# Altium integrated library Infineon_Microcontroller.IntLib: 721 symbols (part 21 of 66)
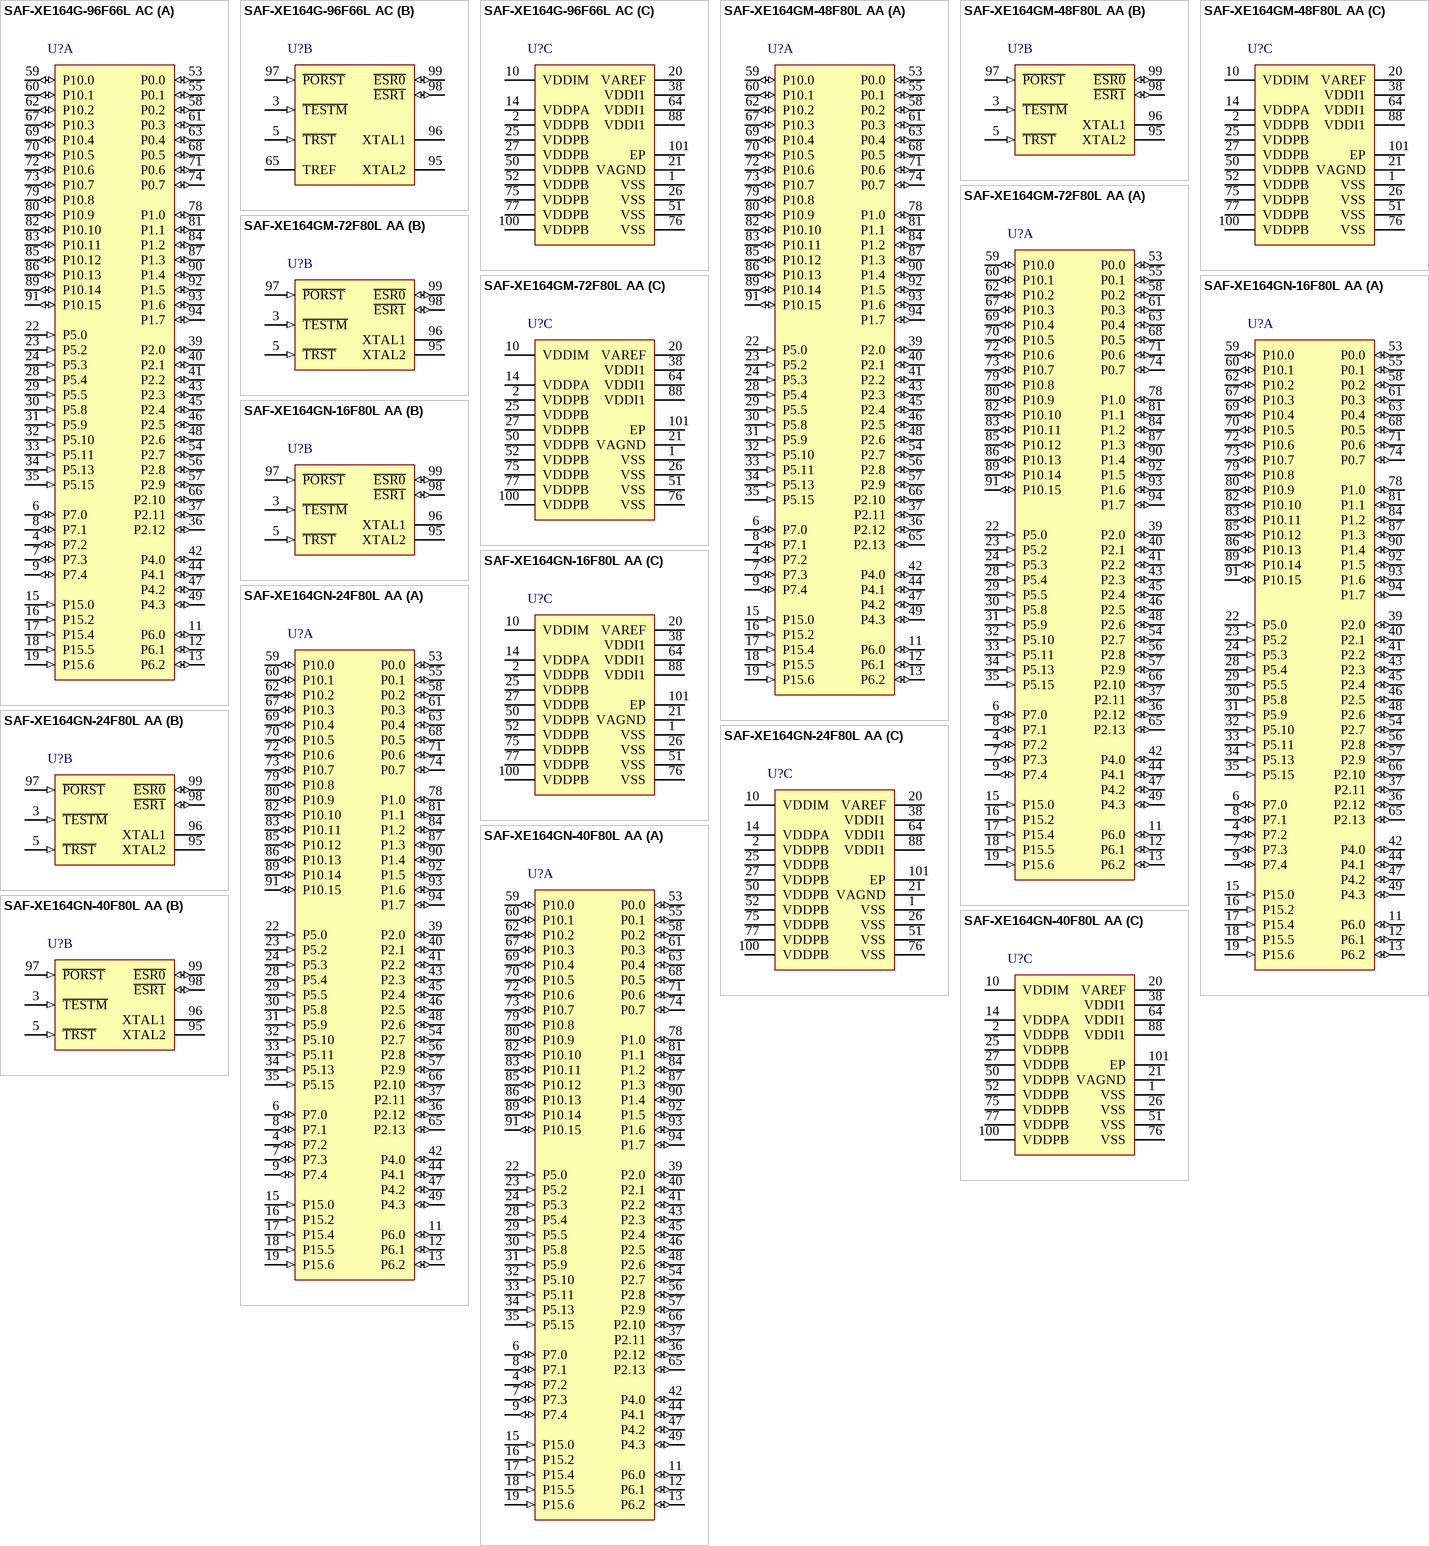
[diagram p138: symbols SAF-XE164G-96F66L AC to SAF-XE164GN-40F80L AA]

## SAF-XE164GN-24F80L AA
designator U?
80 MHz XE166 MCU with 192 KByte Program Memory, 26 KByte SRAM, -40 to 85 degC, PG-LQFP-100-8, Green; Manufacturer: Infineon; PartNumber: SAF-XE164GN-24F80L AA; A / D input lines (incl. FADC): 6+5; CAN Nodes: 2; Green: TRUE; Max Clock Frequency: 80 MHz; Packing: Reel; DatasheetVersion: Rev. 1.4; PackageVersion: Rev. 11, 02/2013; PackageReference: PG-LQFP-100-8; PackageDescription: 100-Pin Plastic (Green) Low Profile Quad Flat Package, 14 x 14 mm Body, 0.5 mm Pitch; Supplier 1: Digi-Key; Supplier Part Number 1: SAF-XE164GN-24F80L AA-ND; Halogen-free: TRUE; Program Memory: 192 KByte; SRAM (incl. Cache): 26 KByte; Mounting Technology: Surface Mount; ComponentLink1Description: Manufacturer URL; ComponentLink1URL: http://www.infineon.com/; ComponentLink2Description: Datasheet; ComponentLink2URL: http://www.infineon.com/dgdl/xe164xn_ds_v1.3_2011_07.pdf?folderId=db3a3043156fd5730115b3a665650d23&fileId=db3a30432313ff5e01235220469362ff; ComponentLink3Description: Package Specification; ComponentLink3URL: http://www.infineon.com/dgdl/xe164xn_ds_v1.4_2013_02.pdf?folderId=db3a3043156fd5730115b3a665650d23&fileId=db3a30432313ff5e01235220469362ff&sId=db3a30443f763e1b013f7661a4e70048
footprint INF-PG-LQFP-100-8-5200X5200TP_N (QFP, 100-Leads, Body 14x14mm, Pitch 0.5mm, Thermal Pad 5.2x5.2mm, IPC Medium Density)
footprint INF-PG-LQFP-100-8-5200X5200TP_L (QFP, 100-Leads, Body 14x14mm, Pitch 0.5mm, Thermal Pad 5.2x5.2mm, IPC High Density)
footprint INF-PG-LQFP-100-8-5200X5200TP_M (QFP, 100-Leads, Body 14x14mm, Pitch 0.5mm, Thermal Pad 5.2x5.2mm, IPC Low Density)
part A pins: 4 P7.2 (io), 6 P7.0 (io), 7 P7.3 (io), 8 P7.1 (io), 9 P7.4 (io), 11 P6.0 (io), 12 P6.1 (io), 13 P6.2 (io), 15 P15.0 (in), 16 P15.2 (in), 17 P15.4 (in), 18 P15.5 (in), 19 P15.6 (in), 22 P5.0 (in), 23 P5.2 (in), 24 P5.3 (in), 28 P5.4 (in), 29 P5.5 (in), 30 P5.8 (in), 31 P5.9 (in), 32 P5.10 (in), 33 P5.11 (in), 34 P5.13 (in), 35 P5.15 (in), 36 P2.12 (io), 37 P2.11 (io), 39 P2.0 (io), 40 P2.1 (io), 41 P2.2 (io), 42 P4.0 (io), 43 P2.3 (io), 44 P4.1 (io), 45 P2.4 (io), 46 P2.5 (io), 47 P4.2 (io), 48 P2.6 (io), 49 P4.3 (io), 53 P0.0 (io), 54 P2.7 (io), 55 P0.1 (io), 56 P2.8 (io), 57 P2.9 (io), 58 P0.2 (io), 59 P10.0 (io), 60 P10.1 (io), 61 P0.3 (io), 62 P10.2 (io), 63 P0.4 (io), 65 P2.13 (io), 66 P2.10 (io), 67 P10.3 (io), 68 P0.5 (io), 69 P10.4 (io), 70 P10.5 (io), 71 P0.6 (io), 72 P10.6 (io), 73 P10.7 (io), 74 P0.7 (io), 78 P1.0 (io), 79 P10.8 (io), 80 P10.9 (io), 81 P1.1 (io), 82 P10.10 (io), 83 P10.11 (io), 84 P1.2 (io), 85 P10.12 (io), 86 P10.13 (io), 87 P1.3 (io), 89 P10.14 (io), 90 P1.4 (io), 91 P10.15 (io), 92 P1.5 (io), 93 P1.6 (io), 94 P1.7 (io)
part B pins: 3 ~{TESTM} (in) "Testmode Enable", 5 ~{TRST} (in) "Test-System Reset Input", 95 XTAL2 "Crystal Oscillator Amplifier Output.", 96 XTAL1, 97 ~{PORST} (in) "Power On Reset Input.", 98 ~{ESR1} (io), 99 ~{ESR0} (io)
part C pins: 1 VSS (power) "Digital Ground.", 2 VDDPB (power) "Digital Pad Supply Voltage for Domain B.", 10 VDDIM (power) "Digital Core Supply Voltage for Domain M", 14 VDDPA (power) "Digital Pad Supply Voltage for Domain A.", 20 VAREF (power) "Reference Voltage for A/D Converters ADC0/1", 21 VAGND (power) "Reference Ground for A/D Converters ADC0/1", 25 VDDPB (power) "Digital Pad Supply Voltage for Domain B.", 26 VSS (power) "Digital Ground.", 27 VDDPB (power) "Digital Pad Supply Voltage for Domain B.", 38 VDDI1 (power) "Digital Core Supply Voltage for Domain 1", 50 VDDPB (power) "Digital Pad Supply Voltage for Domain B.", 51 VSS (power) "Digital Ground.", 52 VDDPB (power) "Digital Pad Supply Voltage for Domain B.", 64 VDDI1 (power) "Digital Core Supply Voltage for Domain 1", 75 VDDPB (power) "Digital Pad Supply Voltage for Domain B.", 76 VSS (power) "Digital Ground.", 77 VDDPB (power) "Digital Pad Supply Voltage for Domain B.", 88 VDDI1 (power) "Digital Core Supply Voltage for Domain 1", 100 VDDPB (power) "Digital Pad Supply Voltage for Domain B.", 101 EP (power)

## SAF-XE164GN-40F80L AA
designator U?
80 MHz XE166 MCU with 320 KByte Program Memory, 34 KByte SRAM, -40 to 85 degC, PG-LQFP-100-8, Green; Manufacturer: Infineon; PartNumber: SAF-XE164GN-40F80L AA; A / D input lines (incl. FADC): 6+5; CAN Nodes: 2; Green: TRUE; Max Clock Frequency: 80 MHz; Packing: Reel; DatasheetVersion: Rev. 1.4; PackageVersion: Rev. 11, 02/2013; PackageReference: PG-LQFP-100-8; PackageDescription: 100-Pin Plastic (Green) Low Profile Quad Flat Package, 14 x 14 mm Body, 0.5 mm Pitch; Supplier 1: Digi-Key; Supplier Part Number 1: SAF-XE164GN-40F80L AA-ND; Halogen-free: TRUE; Program Memory: 320 KByte; SRAM (incl. Cache): 34 KByte; Mounting Technology: Surface Mount; ComponentLink1Description: Manufacturer URL; ComponentLink1URL: http://www.infineon.com/; ComponentLink2Description: Datasheet; ComponentLink2URL: http://www.infineon.com/dgdl/xe164xn_ds_v1.3_2011_07.pdf?folderId=db3a3043156fd5730115b3a665650d23&fileId=db3a30432313ff5e01235220469362ff; ComponentLink3Description: Package Specification; ComponentLink3URL: http://www.infineon.com/dgdl/xe164xn_ds_v1.4_2013_02.pdf?folderId=db3a3043156fd5730115b3a665650d23&fileId=db3a30432313ff5e01235220469362ff&sId=db3a30443f763e1b013f7661a4e70048
footprint INF-PG-LQFP-100-8-5200X5200TP_N (QFP, 100-Leads, Body 14x14mm, Pitch 0.5mm, Thermal Pad 5.2x5.2mm, IPC Medium Density)
footprint INF-PG-LQFP-100-8-5200X5200TP_L (QFP, 100-Leads, Body 14x14mm, Pitch 0.5mm, Thermal Pad 5.2x5.2mm, IPC High Density)
footprint INF-PG-LQFP-100-8-5200X5200TP_M (QFP, 100-Leads, Body 14x14mm, Pitch 0.5mm, Thermal Pad 5.2x5.2mm, IPC Low Density)
part A pins: 4 P7.2 (io), 6 P7.0 (io), 7 P7.3 (io), 8 P7.1 (io), 9 P7.4 (io), 11 P6.0 (io), 12 P6.1 (io), 13 P6.2 (io), 15 P15.0 (in), 16 P15.2 (in), 17 P15.4 (in), 18 P15.5 (in), 19 P15.6 (in), 22 P5.0 (in), 23 P5.2 (in), 24 P5.3 (in), 28 P5.4 (in), 29 P5.5 (in), 30 P5.8 (in), 31 P5.9 (in), 32 P5.10 (in), 33 P5.11 (in), 34 P5.13 (in), 35 P5.15 (in), 36 P2.12 (io), 37 P2.11 (io), 39 P2.0 (io), 40 P2.1 (io), 41 P2.2 (io), 42 P4.0 (io), 43 P2.3 (io), 44 P4.1 (io), 45 P2.4 (io), 46 P2.5 (io), 47 P4.2 (io), 48 P2.6 (io), 49 P4.3 (io), 53 P0.0 (io), 54 P2.7 (io), 55 P0.1 (io), 56 P2.8 (io), 57 P2.9 (io), 58 P0.2 (io), 59 P10.0 (io), 60 P10.1 (io), 61 P0.3 (io), 62 P10.2 (io), 63 P0.4 (io), 65 P2.13 (io), 66 P2.10 (io), 67 P10.3 (io), 68 P0.5 (io), 69 P10.4 (io), 70 P10.5 (io), 71 P0.6 (io), 72 P10.6 (io), 73 P10.7 (io), 74 P0.7 (io), 78 P1.0 (io), 79 P10.8 (io), 80 P10.9 (io), 81 P1.1 (io), 82 P10.10 (io), 83 P10.11 (io), 84 P1.2 (io), 85 P10.12 (io), 86 P10.13 (io), 87 P1.3 (io), 89 P10.14 (io), 90 P1.4 (io), 91 P10.15 (io), 92 P1.5 (io), 93 P1.6 (io), 94 P1.7 (io)
part B pins: 3 ~{TESTM} (in) "Testmode Enable", 5 ~{TRST} (in) "Test-System Reset Input", 95 XTAL2 "Crystal Oscillator Amplifier Output.", 96 XTAL1, 97 ~{PORST} (in) "Power On Reset Input.", 98 ~{ESR1} (io), 99 ~{ESR0} (io)
part C pins: 1 VSS (power) "Digital Ground.", 2 VDDPB (power) "Digital Pad Supply Voltage for Domain B.", 10 VDDIM (power) "Digital Core Supply Voltage for Domain M", 14 VDDPA (power) "Digital Pad Supply Voltage for Domain A.", 20 VAREF (power) "Reference Voltage for A/D Converters ADC0/1", 21 VAGND (power) "Reference Ground for A/D Converters ADC0/1", 25 VDDPB (power) "Digital Pad Supply Voltage for Domain B.", 26 VSS (power) "Digital Ground.", 27 VDDPB (power) "Digital Pad Supply Voltage for Domain B.", 38 VDDI1 (power) "Digital Core Supply Voltage for Domain 1", 50 VDDPB (power) "Digital Pad Supply Voltage for Domain B.", 51 VSS (power) "Digital Ground.", 52 VDDPB (power) "Digital Pad Supply Voltage for Domain B.", 64 VDDI1 (power) "Digital Core Supply Voltage for Domain 1", 75 VDDPB (power) "Digital Pad Supply Voltage for Domain B.", 76 VSS (power) "Digital Ground.", 77 VDDPB (power) "Digital Pad Supply Voltage for Domain B.", 88 VDDI1 (power) "Digital Core Supply Voltage for Domain 1", 100 VDDPB (power) "Digital Pad Supply Voltage for Domain B.", 101 EP (power)

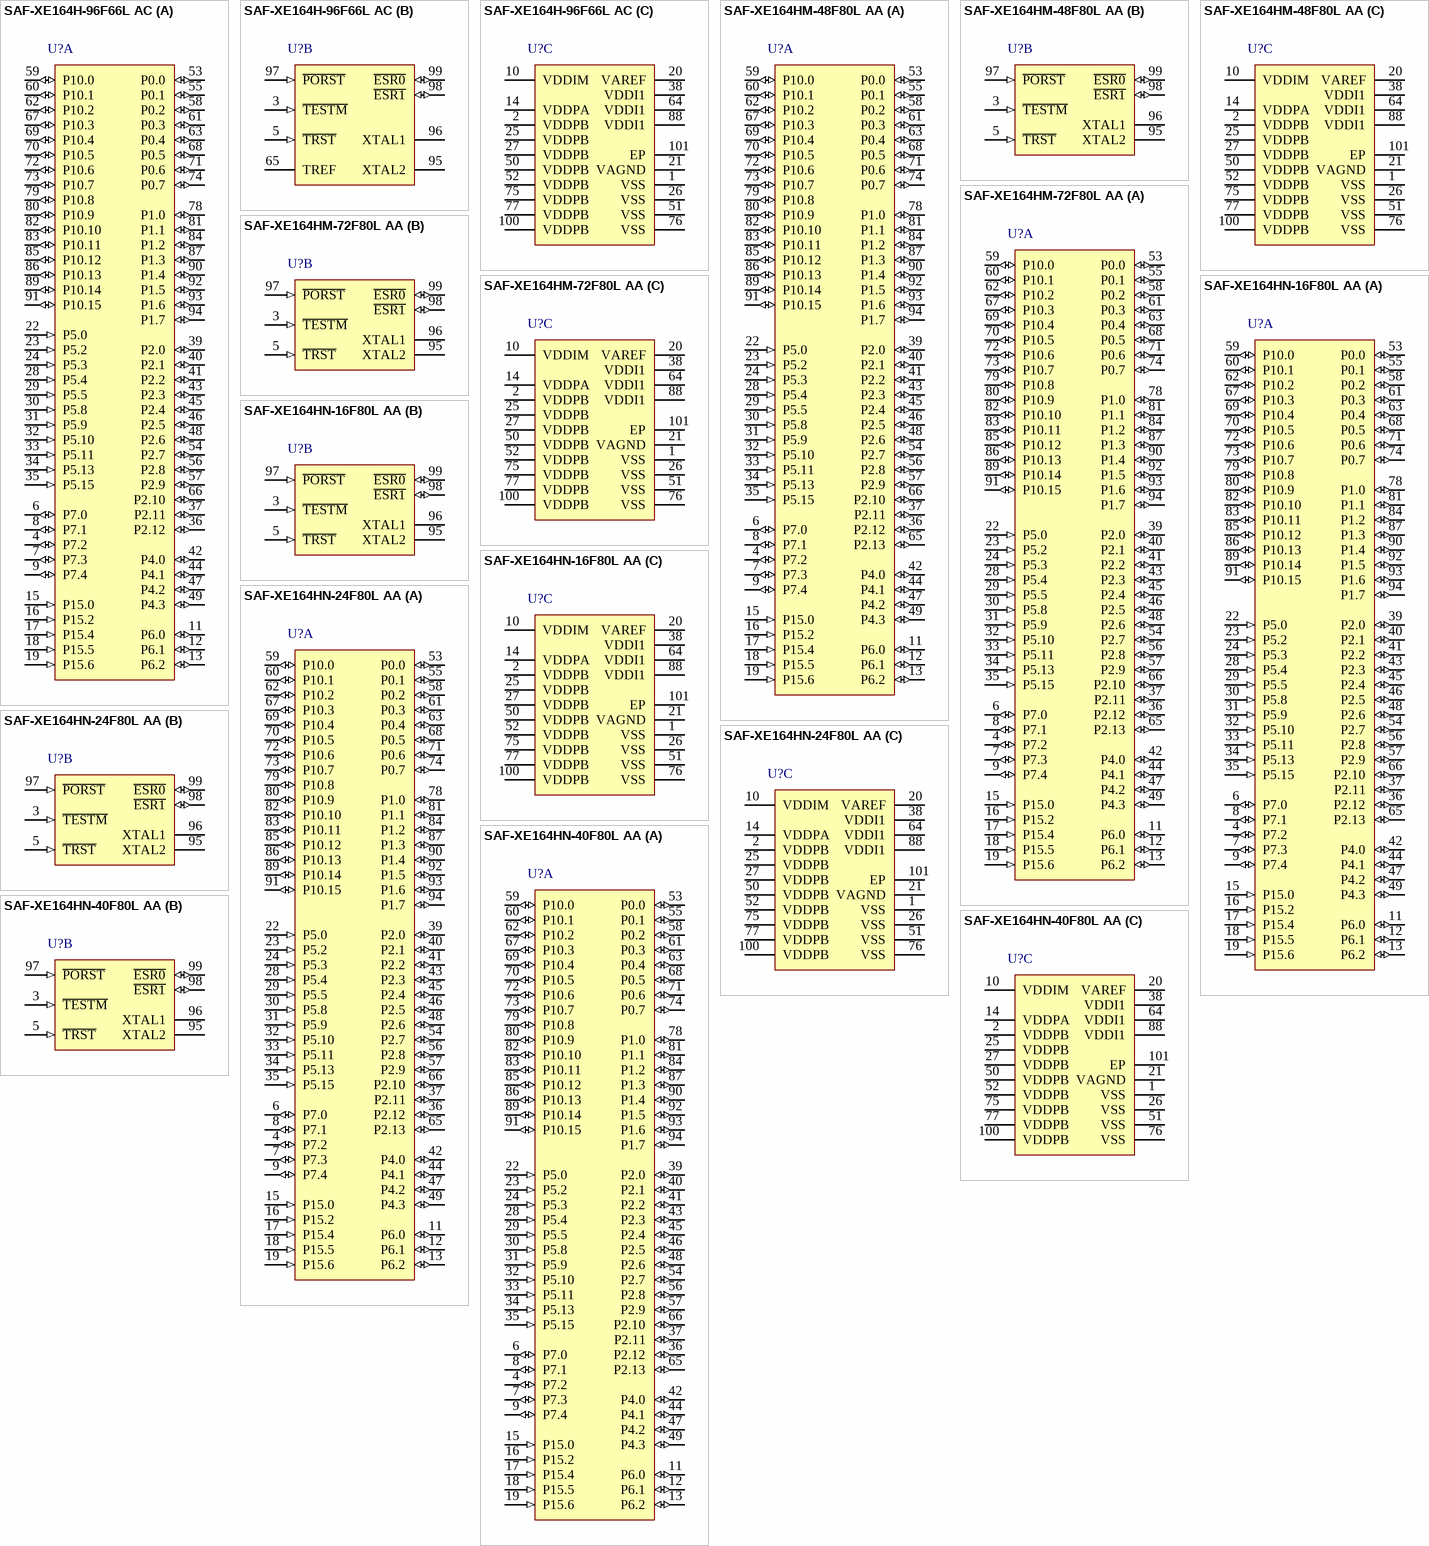
[diagram p33: symbols SAF-XE164H-96F66L AC to SAF-XE164HN-40F80L AA]

## SAF-XE164H-96F66L AC
designator U?
66 MHz XE166 MCU with 768 KByte Program Memory, 82 KByte SRAM, 3 V, 5.5 V, -40 to 85 degC, PG-LQFP-100, Reel, Green; Manufacturer: Infineon; PartNumber: SAF-XE164H-96F66L AC; A / D input lines (incl. FADC): 16; CAN Nodes: 0; Comment/Add. Features: Functional Packing; DatasheetVersion: Rev. 2.1; PackageVersion: Mar-13; PackageReference: PG-LQFP-100-3; PackageDescription: 100-Pin Plastic (Green) Low Profile Quad Flat Package, Body 14 x 14 mm, Pitch 0.5 mm; Supplier 1: Mouser; Supplier Part Number 1: 726-SAFXE164H96F66LA; Supplier 2: Digi-Key; Supplier Part Number 2: SAF-XE164H-96F66L AC-ND; Mounting Technology: Surface Mount; ComponentLink1Description: Manufacturer URL; ComponentLink1URL: http://www.infineon.com/; ComponentLink2Description: Datasheet; ComponentLink2URL: http://www.infineon.com/dgdl/xe164x_ds_v2.1_2008_08.pdf?folderId=db3a3043156fd5730115b3a665650d23&fileId=db3a3043156fd57301161007ff671b4d&sId=db3a30443d98b7f0013d9b8b27480250; ComponentLink3Description: Package Specification; ComponentLink3URL: http://www.infineon.com/dgdl/PG-LQFP-100-3%2C-4%2C-8%2C-11-Package_Overview.pdf?folderId=db3a30431a5c32f2011a90c5ac475987&fileId=db3a30431a5c32f2011a9129fcd359d1
footprint INF-PG-LQFP-100-3-6200X6200TP_N (QFP, 100-Leads, Body 14x14mm, Pitch 0.5mm, Thermal Pad 6.2x6.2mm, IPC Medium Density)
footprint INF-PG-LQFP-100-3-6200X6200TP_L (QFP, 100-Leads, Body 14x14mm, Pitch 0.5mm, Thermal Pad 6.2x6.2mm, IPC High Density)
footprint INF-PG-LQFP-100-3-6200X6200TP_M (QFP, 100-Leads, Body 14x14mm, Pitch 0.5mm, Thermal Pad 6.2x6.2mm, IPC Low Density)
part A pins: 4 P7.2 (io), 6 P7.0 (io), 7 P7.3 (io), 8 P7.1 (io), 9 P7.4 (io), 11 P6.0 (io), 12 P6.1 (io), 13 P6.2 (io), 15 P15.0 (in), 16 P15.2 (in), 17 P15.4 (in), 18 P15.5 (in), 19 P15.6 (in), 22 P5.0 (in), 23 P5.2 (in), 24 P5.3 (in), 28 P5.4 (in), 29 P5.5 (in), 30 P5.8 (in), 31 P5.9 (in), 32 P5.10 (in), 33 P5.11 (in), 34 P5.13 (in), 35 P5.15 (in), 36 P2.12 (io), 37 P2.11 (io), 39 P2.0 (io), 40 P2.1 (io), 41 P2.2 (io), 42 P4.0 (io), 43 P2.3 (io), 44 P4.1 (io), 45 P2.4 (io), 46 P2.5 (io), 47 P4.2 (io), 48 P2.6 (io), 49 P4.3 (io), 53 P0.0 (io), 54 P2.7 (io), 55 P0.1 (io), 56 P2.8 (io), 57 P2.9 (io), 58 P0.2 (io), 59 P10.0 (io), 60 P10.1 (io), 61 P0.3 (io), 62 P10.2 (io), 63 P0.4 (io), 66 P2.10 (io), 67 P10.3 (io), 68 P0.5 (io), 69 P10.4 (io), 70 P10.5 (io), 71 P0.6 (io), 72 P10.6 (io), 73 P10.7 (io), 74 P0.7 (io), 78 P1.0 (io), 79 P10.8 (io), 80 P10.9 (io), 81 P1.1 (io), 82 P10.10 (io), 83 P10.11 (io), 84 P1.2 (io), 85 P10.12 (io), 86 P10.13 (io), 87 P1.3 (io), 89 P10.14 (io), 90 P1.4 (io), 91 P10.15 (io), 92 P1.5 (io), 93 P1.6 (io), 94 P1.7 (io)
part B pins: 3 ~{TESTM} (in) "Testmode Enable", 5 ~{TRST} (in) "Test-System Reset Input", 65 TREF "Control Pin for Core Voltage Generation", 95 XTAL2 "Crystal Oscillator Amplifier Output.", 96 XTAL1 "Crystal Oscillator Amplifier Input.", 97 ~{PORST} (in) "Power On Reset Input.", 98 ~{ESR1} (io), 99 ~{ESR0} (io)
part C pins: 1 VSS (power) "Digital Ground.", 2 VDDPB (power) "Digital Pad Supply Voltage for Domain B.", 10 VDDIM (power) "Digital Core Supply Voltage for Domain M", 14 VDDPA (power) "Digital Pad Supply Voltage for Domain A.", 20 VAREF (power) "Reference Voltage for A/D Converters ADC0/1", 21 VAGND (power) "Reference Ground for A/D Converters ADC0/1", 25 VDDPB (power) "Digital Pad Supply Voltage for Domain B.", 26 VSS (power) "Digital Ground.", 27 VDDPB (power) "Digital Pad Supply Voltage for Domain B.", 38 VDDI1 (power) "Digital Core Supply Voltage for Domain 1", 50 VDDPB (power) "Digital Pad Supply Voltage for Domain B.", 51 VSS (power) "Digital Ground.", 52 VDDPB (power) "Digital Pad Supply Voltage for Domain B.", 64 VDDI1 (power) "Digital Core Supply Voltage for Domain 1", 75 VDDPB (power) "Digital Pad Supply Voltage for Domain B.", 76 VSS (power) "Digital Ground.", 77 VDDPB (power) "Digital Pad Supply Voltage for Domain B.", 88 VDDI1 (power) "Digital Core Supply Voltage for Domain 1", 100 VDDPB (power) "Digital Pad Supply Voltage for Domain B.", 101 EP (power)

## SAF-XE164HM-48F80L AA
designator U?
80 MHz XE166 MCU with 384 KByte Program Memory, 34 KByte SRAM, 3 V, 5.5 V, -40 to 85 degC, PG-LQFP-100, Reel, Green; Manufacturer: Infineon; PartNumber: SAF-XE164HM-48F80L AA; A / D input lines (incl. FADC): 16; CAN Nodes: 0; Comment/Add. Features: Functional Packing; DatasheetVersion: Rev. 2.1; PackageVersion: Mar-13; PackageReference: PG-LQFP-100-8; PackageDescription: 100-Pin Plastic (Green) Low Profile Quad Flat Package, Body 14 x 14 mm, Pitch 0.5 mm; Supplier 1: Digi-Key; Supplier Part Number 1: SAF-XE164HM-48F80L AA-ND; Mounting Technology: Surface Mount; ComponentLink1Description: Manufacturer URL; ComponentLink1URL: http://www.infineon.com/; ComponentLink2Description: Datasheet; ComponentLink2URL: http://www.infineon.com/dgdl/xe164xm_ds_v2.1_2011_07.pdf?folderId=db3a3043156fd5730115b3a665650d23&fileId=db3a304334c41e910134eb1d288804ef; ComponentLink3Description: Package Specification; ComponentLink3URL: http://www.infineon.com/dgdl/PG-LQFP-100-3%2C-4%2C-8%2C-11-Package_Overview.pdf?folderId=db3a30431a5c32f2011a90c5ac475987&fileId=db3a30431a5c32f2011a9129fcd359d1
footprint INF-PG-LQFP-100-8-6200X6200TP_N (QFP, 100-Leads, Body 14x14mm, Pitch 0.5mm, Thermal Pad 6.2x6.2mm, IPC Medium Density)
footprint INF-PG-LQFP-100-8-6200X6200TP_L (QFP, 100-Leads, Body 14x14mm, Pitch 0.5mm, Thermal Pad 6.2x6.2mm, IPC High Density)
footprint INF-PG-LQFP-100-8-6200X6200TP_M (QFP, 100-Leads, Body 14x14mm, Pitch 0.5mm, Thermal Pad 6.2x6.2mm, IPC Low Density)
part A pins: 4 P7.2 (io), 6 P7.0 (io), 7 P7.3 (io), 8 P7.1 (io), 9 P7.4 (io), 11 P6.0 (io), 12 P6.1 (io), 13 P6.2 (io), 15 P15.0 (in), 16 P15.2 (in), 17 P15.4 (in), 18 P15.5 (in), 19 P15.6 (in), 22 P5.0 (in), 23 P5.2 (in), 24 P5.3 (in), 28 P5.4 (in), 29 P5.5 (in), 30 P5.8 (in), 31 P5.9 (in), 32 P5.10 (in), 33 P5.11 (in), 34 P5.13 (in), 35 P5.15 (in), 36 P2.12 (io), 37 P2.11 (io), 39 P2.0 (io), 40 P2.1 (io), 41 P2.2 (io), 42 P4.0 (io), 43 P2.3 (io), 44 P4.1 (io), 45 P2.4 (io), 46 P2.5 (io), 47 P4.2 (io), 48 P2.6 (io), 49 P4.3 (io), 53 P0.0 (io), 54 P2.7 (io), 55 P0.1 (io), 56 P2.8 (io), 57 P2.9 (io), 58 P0.2 (io), 59 P10.0 (io), 60 P10.1 (io), 61 P0.3 (io), 62 P10.2 (io), 63 P0.4 (io), 65 P2.13 (io), 66 P2.10 (io), 67 P10.3 (io), 68 P0.5 (io), 69 P10.4 (io), 70 P10.5 (io), 71 P0.6 (io), 72 P10.6 (io), 73 P10.7 (io), 74 P0.7 (io), 78 P1.0 (io), 79 P10.8 (io), 80 P10.9 (io), 81 P1.1 (io), 82 P10.10 (io), 83 P10.11 (io), 84 P1.2 (io), 85 P10.12 (io), 86 P10.13 (io), 87 P1.3 (io), 89 P10.14 (io), 90 P1.4 (io), 91 P10.15 (io), 92 P1.5 (io), 93 P1.6 (io), 94 P1.7 (io)
part B pins: 3 ~{TESTM} (in) "Testmode Enable", 5 ~{TRST} (in) "Test-System Reset Input", 95 XTAL2 "Crystal Oscillator Amplifier Output.", 96 XTAL1, 97 ~{PORST} (in) "Power On Reset Input.", 98 ~{ESR1} (io), 99 ~{ESR0} (io)
part C pins: 1 VSS (power) "Digital Ground.", 2 VDDPB (power) "Digital Pad Supply Voltage for Domain B.", 10 VDDIM (power) "Digital Core Supply Voltage for Domain M", 14 VDDPA (power) "Digital Pad Supply Voltage for Domain A.", 20 VAREF (power) "Reference Voltage for A/D Converters ADC0/1", 21 VAGND (power) "Reference Ground for A/D Converters ADC0/1", 25 VDDPB (power) "Digital Pad Supply Voltage for Domain B.", 26 VSS (power) "Digital Ground.", 27 VDDPB (power) "Digital Pad Supply Voltage for Domain B.", 38 VDDI1 (power) "Digital Core Supply Voltage for Domain 1", 50 VDDPB (power) "Digital Pad Supply Voltage for Domain B.", 51 VSS (power) "Digital Ground.", 52 VDDPB (power) "Digital Pad Supply Voltage for Domain B.", 64 VDDI1 (power) "Digital Core Supply Voltage for Domain 1", 75 VDDPB (power) "Digital Pad Supply Voltage for Domain B.", 76 VSS (power) "Digital Ground.", 77 VDDPB (power) "Digital Pad Supply Voltage for Domain B.", 88 VDDI1 (power) "Digital Core Supply Voltage for Domain 1", 100 VDDPB (power) "Digital Pad Supply Voltage for Domain B.", 101 EP (power)

## SAF-XE164HM-72F80L AA
designator U?
80 MHz XE166 MCU with 576 KByte Program Memory, 50 KByte SRAM, 3 V, 5.5 V, -40 to 85 degC, PG-LQFP-100, Reel, Green; Manufacturer: Infineon; PartNumber: SAF-XE164HM-72F80L AA; A / D input lines (incl. FADC): 16; CAN Nodes: 0; Comment/Add. Features: Functional Packing; DatasheetVersion: Rev. 2.1; PackageVersion: Mar-13; PackageReference: PG-LQFP-100-8; PackageDescription: 100-Pin Plastic (Green) Low Profile Quad Flat Package, Body 14 x 14 mm, Pitch 0.5 mm; Supplier 1: Mouser; Supplier Part Number 1: 726-SAFXE164HM72F80L; Supplier 2: Digi-Key; Supplier Part Number 2: SAF-XE164HM-72F80L AA-ND; Mounting Technology: Surface Mount; ComponentLink1Description: Manufacturer URL; ComponentLink1URL: http://www.infineon.com/; ComponentLink2Description: Datasheet; ComponentLink2URL: http://www.infineon.com/dgdl/xe164xm_ds_v2.1_2011_07.pdf?folderId=db3a3043156fd5730115b3a665650d23&fileId=db3a304334c41e910134eb1d288804ef; ComponentLink3Description: Package Specification; ComponentLink3URL: http://www.infineon.com/dgdl/PG-LQFP-100-3%2C-4%2C-8%2C-11-Package_Overview.pdf?folderId=db3a30431a5c32f2011a90c5ac475987&fileId=db3a30431a5c32f2011a9129fcd359d1
footprint INF-PG-LQFP-100-8-6200X6200TP_N (QFP, 100-Leads, Body 14x14mm, Pitch 0.5mm, Thermal Pad 6.2x6.2mm, IPC Medium Density)
footprint INF-PG-LQFP-100-8-6200X6200TP_L (QFP, 100-Leads, Body 14x14mm, Pitch 0.5mm, Thermal Pad 6.2x6.2mm, IPC High Density)
footprint INF-PG-LQFP-100-8-6200X6200TP_M (QFP, 100-Leads, Body 14x14mm, Pitch 0.5mm, Thermal Pad 6.2x6.2mm, IPC Low Density)
part A pins: 4 P7.2 (io), 6 P7.0 (io), 7 P7.3 (io), 8 P7.1 (io), 9 P7.4 (io), 11 P6.0 (io), 12 P6.1 (io), 13 P6.2 (io), 15 P15.0 (in), 16 P15.2 (in), 17 P15.4 (in), 18 P15.5 (in), 19 P15.6 (in), 22 P5.0 (in), 23 P5.2 (in), 24 P5.3 (in), 28 P5.4 (in), 29 P5.5 (in), 30 P5.8 (in), 31 P5.9 (in), 32 P5.10 (in), 33 P5.11 (in), 34 P5.13 (in), 35 P5.15 (in), 36 P2.12 (io), 37 P2.11 (io), 39 P2.0 (io), 40 P2.1 (io), 41 P2.2 (io), 42 P4.0 (io), 43 P2.3 (io), 44 P4.1 (io), 45 P2.4 (io), 46 P2.5 (io), 47 P4.2 (io), 48 P2.6 (io), 49 P4.3 (io), 53 P0.0 (io), 54 P2.7 (io), 55 P0.1 (io), 56 P2.8 (io), 57 P2.9 (io), 58 P0.2 (io), 59 P10.0 (io), 60 P10.1 (io), 61 P0.3 (io), 62 P10.2 (io), 63 P0.4 (io), 65 P2.13 (io), 66 P2.10 (io), 67 P10.3 (io), 68 P0.5 (io), 69 P10.4 (io), 70 P10.5 (io), 71 P0.6 (io), 72 P10.6 (io), 73 P10.7 (io), 74 P0.7 (io), 78 P1.0 (io), 79 P10.8 (io), 80 P10.9 (io), 81 P1.1 (io), 82 P10.10 (io), 83 P10.11 (io), 84 P1.2 (io), 85 P10.12 (io), 86 P10.13 (io), 87 P1.3 (io), 89 P10.14 (io), 90 P1.4 (io), 91 P10.15 (io), 92 P1.5 (io), 93 P1.6 (io), 94 P1.7 (io)
part B pins: 3 ~{TESTM} (in) "Testmode Enable", 5 ~{TRST} (in) "Test-System Reset Input", 95 XTAL2 "Crystal Oscillator Amplifier Output.", 96 XTAL1, 97 ~{PORST} (in) "Power On Reset Input.", 98 ~{ESR1} (io), 99 ~{ESR0} (io)
part C pins: 1 VSS (power) "Digital Ground.", 2 VDDPB (power) "Digital Pad Supply Voltage for Domain B.", 10 VDDIM (power) "Digital Core Supply Voltage for Domain M", 14 VDDPA (power) "Digital Pad Supply Voltage for Domain A.", 20 VAREF (power) "Reference Voltage for A/D Converters ADC0/1", 21 VAGND (power) "Reference Ground for A/D Converters ADC0/1", 25 VDDPB (power) "Digital Pad Supply Voltage for Domain B.", 26 VSS (power) "Digital Ground.", 27 VDDPB (power) "Digital Pad Supply Voltage for Domain B.", 38 VDDI1 (power) "Digital Core Supply Voltage for Domain 1", 50 VDDPB (power) "Digital Pad Supply Voltage for Domain B.", 51 VSS (power) "Digital Ground.", 52 VDDPB (power) "Digital Pad Supply Voltage for Domain B.", 64 VDDI1 (power) "Digital Core Supply Voltage for Domain 1", 75 VDDPB (power) "Digital Pad Supply Voltage for Domain B.", 76 VSS (power) "Digital Ground.", 77 VDDPB (power) "Digital Pad Supply Voltage for Domain B.", 88 VDDI1 (power) "Digital Core Supply Voltage for Domain 1", 100 VDDPB (power) "Digital Pad Supply Voltage for Domain B.", 101 EP (power)

## SAF-XE164HN-16F80L AA
designator U?
80 MHz XE166 MCU with 128 KByte Program Memory, 18 KByte SRAM, 3 V, 5.5 V, -40 to 85 degC, PG-LQFP-100, Reel, Green; Manufacturer: Infineon; PartNumber: SAF-XE164HN-16F80L AA; A / D input lines (incl. FADC): 11+5; CAN Nodes: 0; Comment/Add. Features: Functional Packing; DatasheetVersion: Rev. 1.4; PackageVersion: Mar-13; PackageReference: PG-LQFP-100-8; PackageDescription: 100-Pin Plastic (Green) Low Profile Quad Flat Package, Body 14 x 14 mm, Pitch 0.5 mm; Supplier 1: Mouser; Supplier Part Number 1: 726-SAFXE164HN16F80L; Supplier 2: Digi-Key; Supplier Part Number 2: SAF-XE164HN-16F80L AA-ND; Mounting Technology: Surface Mount; ComponentLink1Description: Manufacturer URL; ComponentLink1URL: http://www.infineon.com/; ComponentLink2Description: Datasheet; ComponentLink2URL: http://www.infineon.com/dgdl/xe164xn_ds_v1.3_2011_07.pdf?folderId=db3a3043156fd5730115b3a665650d23&fileId=db3a30432313ff5e01235220469362ff; ComponentLink3Description: Package Specification; ComponentLink3URL: http://www.infineon.com/dgdl/PG-LQFP-100-3%2C-4%2C-8%2C-11-Package_Overview.pdf?folderId=db3a30431a5c32f2011a90c5ac475987&fileId=db3a30431a5c32f2011a9129fcd359d1
footprint INF-PG-LQFP-100-8-6200X6200TP_N (QFP, 100-Leads, Body 14x14mm, Pitch 0.5mm, Thermal Pad 6.2x6.2mm, IPC Medium Density)
footprint INF-PG-LQFP-100-8-6200X6200TP_L (QFP, 100-Leads, Body 14x14mm, Pitch 0.5mm, Thermal Pad 6.2x6.2mm, IPC High Density)
footprint INF-PG-LQFP-100-8-6200X6200TP_M (QFP, 100-Leads, Body 14x14mm, Pitch 0.5mm, Thermal Pad 6.2x6.2mm, IPC Low Density)
part A pins: 4 P7.2 (io), 6 P7.0 (io), 7 P7.3 (io), 8 P7.1 (io), 9 P7.4 (io), 11 P6.0 (io), 12 P6.1 (io), 13 P6.2 (io), 15 P15.0 (in), 16 P15.2 (in), 17 P15.4 (in), 18 P15.5 (in), 19 P15.6 (in), 22 P5.0 (in), 23 P5.2 (in), 24 P5.3 (in), 28 P5.4 (in), 29 P5.5 (in), 30 P5.8 (in), 31 P5.9 (in), 32 P5.10 (in), 33 P5.11 (in), 34 P5.13 (in), 35 P5.15 (in), 36 P2.12 (io), 37 P2.11 (io), 39 P2.0 (io), 40 P2.1 (io), 41 P2.2 (io), 42 P4.0 (io), 43 P2.3 (io), 44 P4.1 (io), 45 P2.4 (io), 46 P2.5 (io), 47 P4.2 (io), 48 P2.6 (io), 49 P4.3 (io), 53 P0.0 (io), 54 P2.7 (io), 55 P0.1 (io), 56 P2.8 (io), 57 P2.9 (io), 58 P0.2 (io), 59 P10.0 (io), 60 P10.1 (io), 61 P0.3 (io), 62 P10.2 (io), 63 P0.4 (io), 65 P2.13 (io), 66 P2.10 (io), 67 P10.3 (io), 68 P0.5 (io), 69 P10.4 (io), 70 P10.5 (io), 71 P0.6 (io), 72 P10.6 (io), 73 P10.7 (io), 74 P0.7 (io), 78 P1.0 (io), 79 P10.8 (io), 80 P10.9 (io), 81 P1.1 (io), 82 P10.10 (io), 83 P10.11 (io), 84 P1.2 (io), 85 P10.12 (io), 86 P10.13 (io), 87 P1.3 (io), 89 P10.14 (io), 90 P1.4 (io), 91 P10.15 (io), 92 P1.5 (io), 93 P1.6 (io), 94 P1.7 (io)
part B pins: 3 ~{TESTM} (in) "Testmode Enable", 5 ~{TRST} (in) "Test-System Reset Input", 95 XTAL2 "Crystal Oscillator Amplifier Output.", 96 XTAL1, 97 ~{PORST} (in) "Power On Reset Input.", 98 ~{ESR1} (io), 99 ~{ESR0} (io)
part C pins: 1 VSS (power) "Digital Ground.", 2 VDDPB (power) "Digital Pad Supply Voltage for Domain B.", 10 VDDIM (power) "Digital Core Supply Voltage for Domain M", 14 VDDPA (power) "Digital Pad Supply Voltage for Domain A.", 20 VAREF (power) "Reference Voltage for A/D Converters ADC0/1", 21 VAGND (power) "Reference Ground for A/D Converters ADC0/1", 25 VDDPB (power) "Digital Pad Supply Voltage for Domain B.", 26 VSS (power) "Digital Ground.", 27 VDDPB (power) "Digital Pad Supply Voltage for Domain B.", 38 VDDI1 (power) "Digital Core Supply Voltage for Domain 1", 50 VDDPB (power) "Digital Pad Supply Voltage for Domain B.", 51 VSS (power) "Digital Ground.", 52 VDDPB (power) "Digital Pad Supply Voltage for Domain B.", 64 VDDI1 (power) "Digital Core Supply Voltage for Domain 1", 75 VDDPB (power) "Digital Pad Supply Voltage for Domain B.", 76 VSS (power) "Digital Ground.", 77 VDDPB (power) "Digital Pad Supply Voltage for Domain B.", 88 VDDI1 (power) "Digital Core Supply Voltage for Domain 1", 100 VDDPB (power) "Digital Pad Supply Voltage for Domain B.", 101 EP (power)

## SAF-XE164HN-24F80L AA
designator U?
80 MHz XE166 MCU with 192 KByte Program Memory, 26 KByte SRAM, -40 to 85 degC, PG-LQFP-100-8, Green; Manufacturer: Infineon; PartNumber: SAF-XE164HN-24F80L AA; A / D input lines (incl. FADC): 11+5; CAN Nodes: 0; Green: TRUE; Max Clock Frequency: 80 MHz; Packing: Reel; DatasheetVersion: Rev. 1.4; PackageVersion: Rev. 11, 02/2013; PackageReference: PG-LQFP-100-8; PackageDescription: 100-Pin Plastic (Green) Low Profile Quad Flat Package, 14 x 14 mm Body, 0.5 mm Pitch; Supplier 1: Digi-Key; Supplier Part Number 1: SAF-XE164HN-24F80L AA-ND; Halogen-free: TRUE; Program Memory: 192 KByte; SRAM (incl. Cache): 26 KByte; Mounting Technology: Surface Mount; ComponentLink1Description: Manufacturer URL; ComponentLink1URL: http://www.infineon.com/; ComponentLink2Description: Datasheet; ComponentLink2URL: http://www.infineon.com/dgdl/xe164xn_ds_v1.3_2011_07.pdf?folderId=db3a3043156fd5730115b3a665650d23&fileId=db3a30432313ff5e01235220469362ff; ComponentLink3Description: Package Specification; ComponentLink3URL: http://www.infineon.com/dgdl/xe164xn_ds_v1.4_2013_02.pdf?folderId=db3a3043156fd5730115b3a665650d23&fileId=db3a30432313ff5e01235220469362ff&sId=db3a30443f763e1b013f7661a4e70048
footprint INF-PG-LQFP-100-8-5200X5200TP_N (QFP, 100-Leads, Body 14x14mm, Pitch 0.5mm, Thermal Pad 5.2x5.2mm, IPC Medium Density)
footprint INF-PG-LQFP-100-8-5200X5200TP_L (QFP, 100-Leads, Body 14x14mm, Pitch 0.5mm, Thermal Pad 5.2x5.2mm, IPC High Density)
footprint INF-PG-LQFP-100-8-5200X5200TP_M (QFP, 100-Leads, Body 14x14mm, Pitch 0.5mm, Thermal Pad 5.2x5.2mm, IPC Low Density)
part A pins: 4 P7.2 (io), 6 P7.0 (io), 7 P7.3 (io), 8 P7.1 (io), 9 P7.4 (io), 11 P6.0 (io), 12 P6.1 (io), 13 P6.2 (io), 15 P15.0 (in), 16 P15.2 (in), 17 P15.4 (in), 18 P15.5 (in), 19 P15.6 (in), 22 P5.0 (in), 23 P5.2 (in), 24 P5.3 (in), 28 P5.4 (in), 29 P5.5 (in), 30 P5.8 (in), 31 P5.9 (in), 32 P5.10 (in), 33 P5.11 (in), 34 P5.13 (in), 35 P5.15 (in), 36 P2.12 (io), 37 P2.11 (io), 39 P2.0 (io), 40 P2.1 (io), 41 P2.2 (io), 42 P4.0 (io), 43 P2.3 (io), 44 P4.1 (io), 45 P2.4 (io), 46 P2.5 (io), 47 P4.2 (io), 48 P2.6 (io), 49 P4.3 (io), 53 P0.0 (io), 54 P2.7 (io), 55 P0.1 (io), 56 P2.8 (io), 57 P2.9 (io), 58 P0.2 (io), 59 P10.0 (io), 60 P10.1 (io), 61 P0.3 (io), 62 P10.2 (io), 63 P0.4 (io), 65 P2.13 (io), 66 P2.10 (io), 67 P10.3 (io), 68 P0.5 (io), 69 P10.4 (io), 70 P10.5 (io), 71 P0.6 (io), 72 P10.6 (io), 73 P10.7 (io), 74 P0.7 (io), 78 P1.0 (io), 79 P10.8 (io), 80 P10.9 (io), 81 P1.1 (io), 82 P10.10 (io), 83 P10.11 (io), 84 P1.2 (io), 85 P10.12 (io), 86 P10.13 (io), 87 P1.3 (io), 89 P10.14 (io), 90 P1.4 (io), 91 P10.15 (io), 92 P1.5 (io), 93 P1.6 (io), 94 P1.7 (io)
part B pins: 3 ~{TESTM} (in) "Testmode Enable", 5 ~{TRST} (in) "Test-System Reset Input", 95 XTAL2 "Crystal Oscillator Amplifier Output.", 96 XTAL1, 97 ~{PORST} (in) "Power On Reset Input.", 98 ~{ESR1} (io), 99 ~{ESR0} (io)
part C pins: 1 VSS (power) "Digital Ground.", 2 VDDPB (power) "Digital Pad Supply Voltage for Domain B.", 10 VDDIM (power) "Digital Core Supply Voltage for Domain M", 14 VDDPA (power) "Digital Pad Supply Voltage for Domain A.", 20 VAREF (power) "Reference Voltage for A/D Converters ADC0/1", 21 VAGND (power) "Reference Ground for A/D Converters ADC0/1", 25 VDDPB (power) "Digital Pad Supply Voltage for Domain B.", 26 VSS (power) "Digital Ground.", 27 VDDPB (power) "Digital Pad Supply Voltage for Domain B.", 38 VDDI1 (power) "Digital Core Supply Voltage for Domain 1", 50 VDDPB (power) "Digital Pad Supply Voltage for Domain B.", 51 VSS (power) "Digital Ground.", 52 VDDPB (power) "Digital Pad Supply Voltage for Domain B.", 64 VDDI1 (power) "Digital Core Supply Voltage for Domain 1", 75 VDDPB (power) "Digital Pad Supply Voltage for Domain B.", 76 VSS (power) "Digital Ground.", 77 VDDPB (power) "Digital Pad Supply Voltage for Domain B.", 88 VDDI1 (power) "Digital Core Supply Voltage for Domain 1", 100 VDDPB (power) "Digital Pad Supply Voltage for Domain B.", 101 EP (power)

## SAF-XE164HN-40F80L AA
designator U?
80 MHz XE166 MCU with 320 KByte Program Memory, 34 KByte SRAM, 3 V, 5.5 V, -40 to 85 degC, PG-LQFP-100, Reel, Green; Manufacturer: Infineon; PartNumber: SAF-XE164HN-40F80L AA; A / D input lines (incl. FADC): 11+5; CAN Nodes: 0; Comment/Add. Features: Functional Packing; DatasheetVersion: Rev. 1.4; PackageVersion: Mar-13; PackageReference: PG-LQFP-100-8; PackageDescription: 100-Pin Plastic (Green) Low Profile Quad Flat Package, Body 14 x 14 mm, Pitch 0.5 mm; Supplier 1: Mouser; Supplier Part Number 1: 726-SAFXE164HN40F80L; Supplier 2: Digi-Key; Supplier Part Number 2: SAF-XE164HN-40F80L AA-ND; Mounting Technology: Surface Mount; ComponentLink1Description: Manufacturer URL; ComponentLink1URL: http://www.infineon.com/; ComponentLink2Description: Datasheet; ComponentLink2URL: http://www.infineon.com/dgdl/xe164xn_ds_v1.3_2011_07.pdf?folderId=db3a3043156fd5730115b3a665650d23&fileId=db3a30432313ff5e01235220469362ff; ComponentLink3Description: Package Specification; ComponentLink3URL: http://www.infineon.com/dgdl/PG-LQFP-100-3%2C-4%2C-8%2C-11-Package_Overview.pdf?folderId=db3a30431a5c32f2011a90c5ac475987&fileId=db3a30431a5c32f2011a9129fcd359d1
footprint INF-PG-LQFP-100-8-6200X6200TP_N (QFP, 100-Leads, Body 14x14mm, Pitch 0.5mm, Thermal Pad 6.2x6.2mm, IPC Medium Density)
footprint INF-PG-LQFP-100-8-6200X6200TP_L (QFP, 100-Leads, Body 14x14mm, Pitch 0.5mm, Thermal Pad 6.2x6.2mm, IPC High Density)
footprint INF-PG-LQFP-100-8-6200X6200TP_M (QFP, 100-Leads, Body 14x14mm, Pitch 0.5mm, Thermal Pad 6.2x6.2mm, IPC Low Density)
part A pins: 4 P7.2 (io), 6 P7.0 (io), 7 P7.3 (io), 8 P7.1 (io), 9 P7.4 (io), 11 P6.0 (io), 12 P6.1 (io), 13 P6.2 (io), 15 P15.0 (in), 16 P15.2 (in), 17 P15.4 (in), 18 P15.5 (in), 19 P15.6 (in), 22 P5.0 (in), 23 P5.2 (in), 24 P5.3 (in), 28 P5.4 (in), 29 P5.5 (in), 30 P5.8 (in), 31 P5.9 (in), 32 P5.10 (in), 33 P5.11 (in), 34 P5.13 (in), 35 P5.15 (in), 36 P2.12 (io), 37 P2.11 (io), 39 P2.0 (io), 40 P2.1 (io), 41 P2.2 (io), 42 P4.0 (io), 43 P2.3 (io), 44 P4.1 (io), 45 P2.4 (io), 46 P2.5 (io), 47 P4.2 (io), 48 P2.6 (io), 49 P4.3 (io), 53 P0.0 (io), 54 P2.7 (io), 55 P0.1 (io), 56 P2.8 (io), 57 P2.9 (io), 58 P0.2 (io), 59 P10.0 (io), 60 P10.1 (io), 61 P0.3 (io), 62 P10.2 (io), 63 P0.4 (io), 65 P2.13 (io), 66 P2.10 (io), 67 P10.3 (io), 68 P0.5 (io), 69 P10.4 (io), 70 P10.5 (io), 71 P0.6 (io), 72 P10.6 (io), 73 P10.7 (io), 74 P0.7 (io), 78 P1.0 (io), 79 P10.8 (io), 80 P10.9 (io), 81 P1.1 (io), 82 P10.10 (io), 83 P10.11 (io), 84 P1.2 (io), 85 P10.12 (io), 86 P10.13 (io), 87 P1.3 (io), 89 P10.14 (io), 90 P1.4 (io), 91 P10.15 (io), 92 P1.5 (io), 93 P1.6 (io), 94 P1.7 (io)
part B pins: 3 ~{TESTM} (in) "Testmode Enable", 5 ~{TRST} (in) "Test-System Reset Input", 95 XTAL2 "Crystal Oscillator Amplifier Output.", 96 XTAL1, 97 ~{PORST} (in) "Power On Reset Input.", 98 ~{ESR1} (io), 99 ~{ESR0} (io)
part C pins: 1 VSS (power) "Digital Ground.", 2 VDDPB (power) "Digital Pad Supply Voltage for Domain B.", 10 VDDIM (power) "Digital Core Supply Voltage for Domain M", 14 VDDPA (power) "Digital Pad Supply Voltage for Domain A.", 20 VAREF (power) "Reference Voltage for A/D Converters ADC0/1", 21 VAGND (power) "Reference Ground for A/D Converters ADC0/1", 25 VDDPB (power) "Digital Pad Supply Voltage for Domain B.", 26 VSS (power) "Digital Ground.", 27 VDDPB (power) "Digital Pad Supply Voltage for Domain B.", 38 VDDI1 (power) "Digital Core Supply Voltage for Domain 1", 50 VDDPB (power) "Digital Pad Supply Voltage for Domain B.", 51 VSS (power) "Digital Ground.", 52 VDDPB (power) "Digital Pad Supply Voltage for Domain B.", 64 VDDI1 (power) "Digital Core Supply Voltage for Domain 1", 75 VDDPB (power) "Digital Pad Supply Voltage for Domain B.", 76 VSS (power) "Digital Ground.", 77 VDDPB (power) "Digital Pad Supply Voltage for Domain B.", 88 VDDI1 (power) "Digital Core Supply Voltage for Domain 1", 100 VDDPB (power) "Digital Pad Supply Voltage for Domain B.", 101 EP (power)

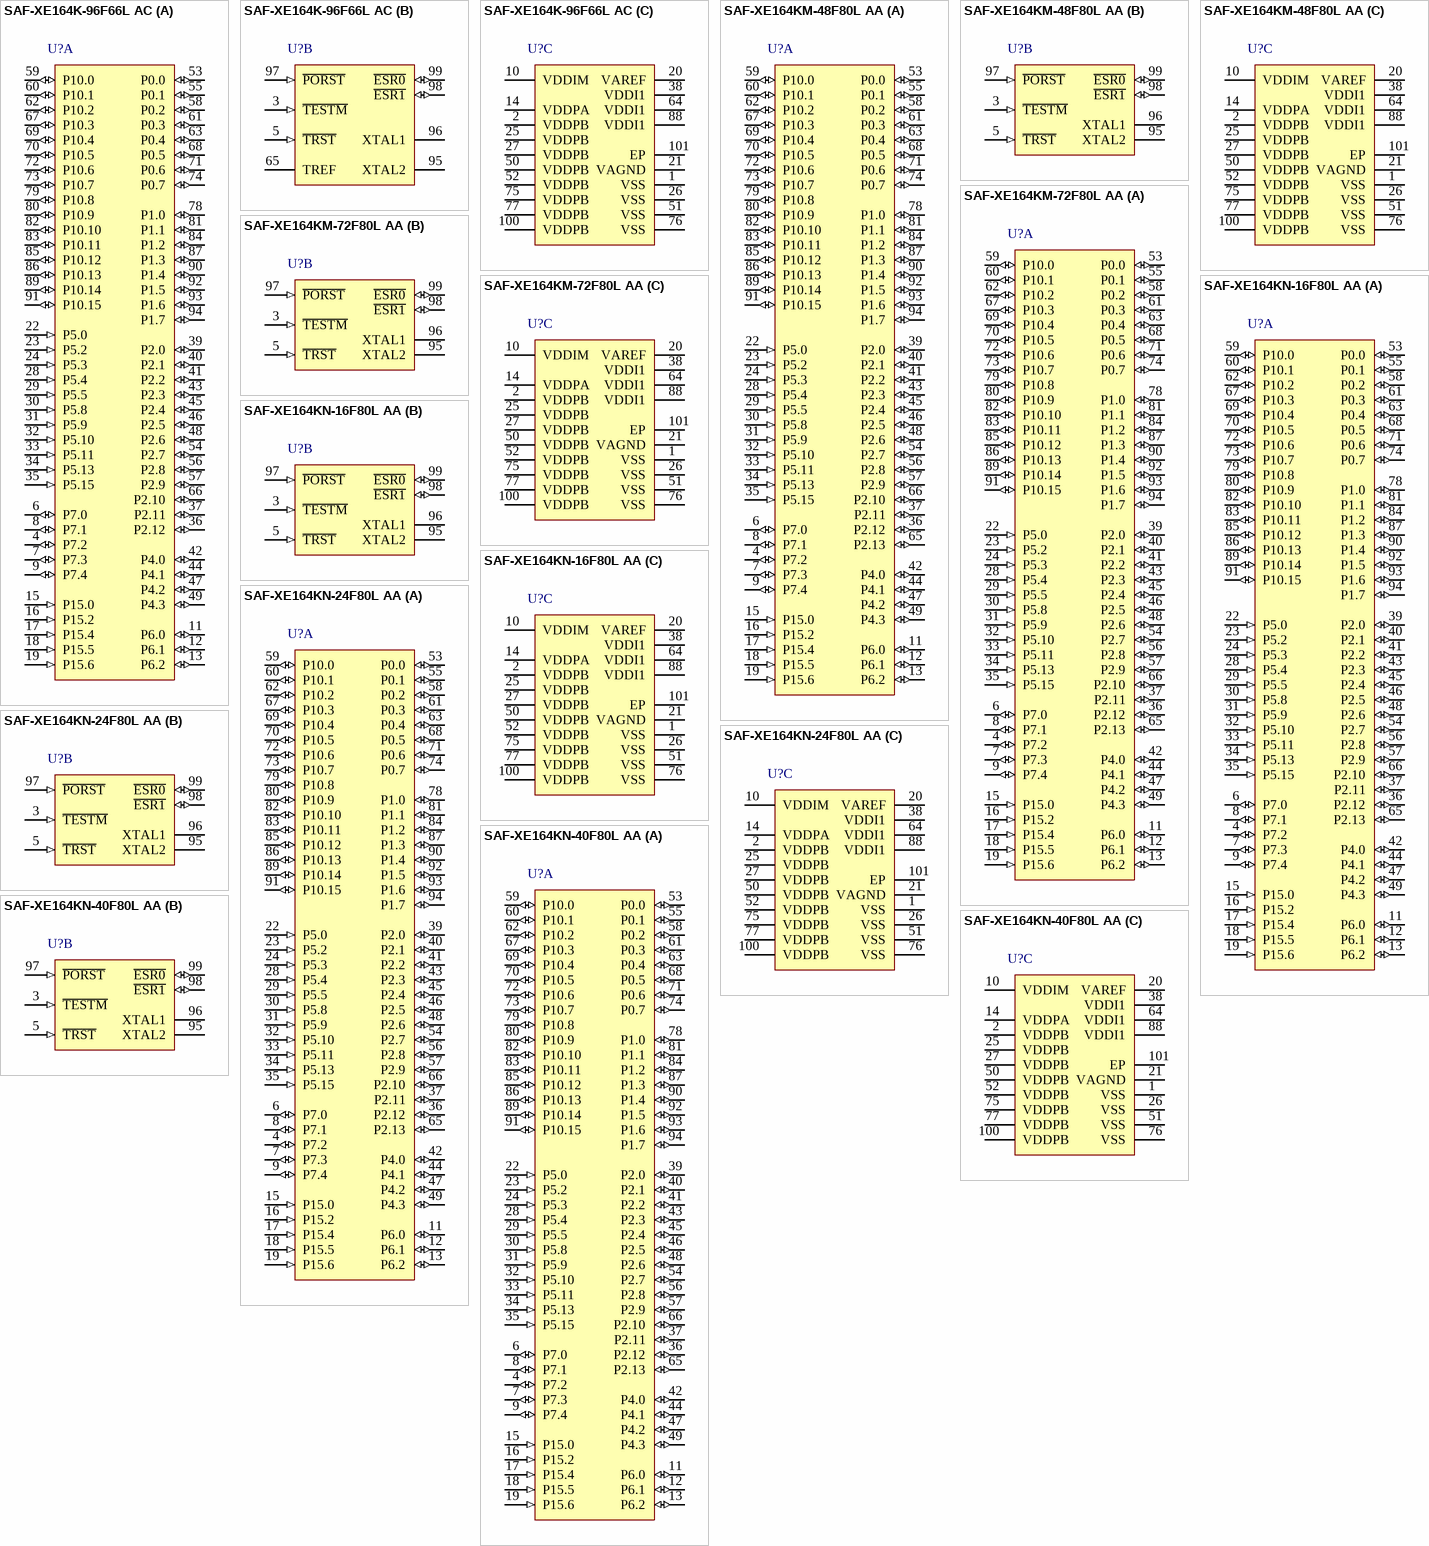
[diagram p34: symbols SAF-XE164K-96F66L AC to SAF-XE164KN-40F80L AA]

## SAF-XE164K-96F66L AC
designator U?
66 MHz XE166 MCU with 768 KByte Program Memory, 82 KByte SRAM, 3 V, 5.5 V, -40 to 85 degC, PG-LQFP-100, Reel, Green; Manufacturer: Infineon; PartNumber: SAF-XE164K-96F66L AC; A / D input lines (incl. FADC): 11; CAN Nodes: 0; Comment/Add. Features: Functional Packing; DatasheetVersion: Rev. 2.1; PackageVersion: Mar-13; PackageReference: PG-LQFP-100-3; PackageDescription: 100-Pin Plastic (Green) Low Profile Quad Flat Package, Body 14 x 14 mm, Pitch 0.5 mm; Supplier 1: Mouser; Supplier Part Number 1: 726-SAFXE164K96F66LA; Supplier 2: Digi-Key; Supplier Part Number 2: SAF-XE164K-96F66L AC-ND; Mounting Technology: Surface Mount; ComponentLink1Description: Manufacturer URL; ComponentLink1URL: http://www.infineon.com/; ComponentLink2Description: Datasheet; ComponentLink2URL: http://www.infineon.com/dgdl/xe164x_ds_v2.1_2008_08.pdf?folderId=db3a3043156fd5730115b3a665650d23&fileId=db3a3043156fd57301161007ff671b4d&sId=db3a30443d98b7f0013d9b8b27480250; ComponentLink3Description: Package Specification; ComponentLink3URL: http://www.infineon.com/dgdl/PG-LQFP-100-3%2C-4%2C-8%2C-11-Package_Overview.pdf?folderId=db3a30431a5c32f2011a90c5ac475987&fileId=db3a30431a5c32f2011a9129fcd359d1
footprint INF-PG-LQFP-100-3-6200X6200TP_N (QFP, 100-Leads, Body 14x14mm, Pitch 0.5mm, Thermal Pad 6.2x6.2mm, IPC Medium Density)
footprint INF-PG-LQFP-100-3-6200X6200TP_L (QFP, 100-Leads, Body 14x14mm, Pitch 0.5mm, Thermal Pad 6.2x6.2mm, IPC High Density)
footprint INF-PG-LQFP-100-3-6200X6200TP_M (QFP, 100-Leads, Body 14x14mm, Pitch 0.5mm, Thermal Pad 6.2x6.2mm, IPC Low Density)
part A pins: 4 P7.2 (io), 6 P7.0 (io), 7 P7.3 (io), 8 P7.1 (io), 9 P7.4 (io), 11 P6.0 (io), 12 P6.1 (io), 13 P6.2 (io), 15 P15.0 (in), 16 P15.2 (in), 17 P15.4 (in), 18 P15.5 (in), 19 P15.6 (in), 22 P5.0 (in), 23 P5.2 (in), 24 P5.3 (in), 28 P5.4 (in), 29 P5.5 (in), 30 P5.8 (in), 31 P5.9 (in), 32 P5.10 (in), 33 P5.11 (in), 34 P5.13 (in), 35 P5.15 (in), 36 P2.12 (io), 37 P2.11 (io), 39 P2.0 (io), 40 P2.1 (io), 41 P2.2 (io), 42 P4.0 (io), 43 P2.3 (io), 44 P4.1 (io), 45 P2.4 (io), 46 P2.5 (io), 47 P4.2 (io), 48 P2.6 (io), 49 P4.3 (io), 53 P0.0 (io), 54 P2.7 (io), 55 P0.1 (io), 56 P2.8 (io), 57 P2.9 (io), 58 P0.2 (io), 59 P10.0 (io), 60 P10.1 (io), 61 P0.3 (io), 62 P10.2 (io), 63 P0.4 (io), 66 P2.10 (io), 67 P10.3 (io), 68 P0.5 (io), 69 P10.4 (io), 70 P10.5 (io), 71 P0.6 (io), 72 P10.6 (io), 73 P10.7 (io), 74 P0.7 (io), 78 P1.0 (io), 79 P10.8 (io), 80 P10.9 (io), 81 P1.1 (io), 82 P10.10 (io), 83 P10.11 (io), 84 P1.2 (io), 85 P10.12 (io), 86 P10.13 (io), 87 P1.3 (io), 89 P10.14 (io), 90 P1.4 (io), 91 P10.15 (io), 92 P1.5 (io), 93 P1.6 (io), 94 P1.7 (io)
part B pins: 3 ~{TESTM} (in) "Testmode Enable", 5 ~{TRST} (in) "Test-System Reset Input", 65 TREF "Control Pin for Core Voltage Generation", 95 XTAL2 "Crystal Oscillator Amplifier Output.", 96 XTAL1 "Crystal Oscillator Amplifier Input.", 97 ~{PORST} (in) "Power On Reset Input.", 98 ~{ESR1} (io), 99 ~{ESR0} (io)
part C pins: 1 VSS (power) "Digital Ground.", 2 VDDPB (power) "Digital Pad Supply Voltage for Domain B.", 10 VDDIM (power) "Digital Core Supply Voltage for Domain M", 14 VDDPA (power) "Digital Pad Supply Voltage for Domain A.", 20 VAREF (power) "Reference Voltage for A/D Converters ADC0/1", 21 VAGND (power) "Reference Ground for A/D Converters ADC0/1", 25 VDDPB (power) "Digital Pad Supply Voltage for Domain B.", 26 VSS (power) "Digital Ground.", 27 VDDPB (power) "Digital Pad Supply Voltage for Domain B.", 38 VDDI1 (power) "Digital Core Supply Voltage for Domain 1", 50 VDDPB (power) "Digital Pad Supply Voltage for Domain B.", 51 VSS (power) "Digital Ground.", 52 VDDPB (power) "Digital Pad Supply Voltage for Domain B.", 64 VDDI1 (power) "Digital Core Supply Voltage for Domain 1", 75 VDDPB (power) "Digital Pad Supply Voltage for Domain B.", 76 VSS (power) "Digital Ground.", 77 VDDPB (power) "Digital Pad Supply Voltage for Domain B.", 88 VDDI1 (power) "Digital Core Supply Voltage for Domain 1", 100 VDDPB (power) "Digital Pad Supply Voltage for Domain B.", 101 EP (power)

## SAF-XE164KM-48F80L AA
designator U?
80 MHz XE166 MCU with 384 KByte Program Memory, 34 KByte SRAM, 3 V, 5.5 V, -40 to 85 degC, PG-LQFP-100, Reel, Green; Manufacturer: Infineon; PartNumber: SAF-XE164KM-48F80L AA; A / D input lines (incl. FADC): 11; CAN Nodes: 0; Comment/Add. Features: Functional Packing; DatasheetVersion: Rev. 2.1; PackageVersion: Mar-13; PackageReference: PG-LQFP-100-8; PackageDescription: 100-Pin Plastic (Green) Low Profile Quad Flat Package, Body 14 x 14 mm, Pitch 0.5 mm; Supplier 1: Mouser; Supplier Part Number 1: 726-SAFXE164KM48F80L; Supplier 2: Digi-Key; Supplier Part Number 2: SAF-XE164KM-48F80L AA-ND; Mounting Technology: Surface Mount; ComponentLink1Description: Manufacturer URL; ComponentLink1URL: http://www.infineon.com/; ComponentLink2Description: Datasheet; ComponentLink2URL: http://www.infineon.com/dgdl/xe164xm_ds_v2.1_2011_07.pdf?folderId=db3a3043156fd5730115b3a665650d23&fileId=db3a304334c41e910134eb1d288804ef; ComponentLink3Description: Package Specification; ComponentLink3URL: http://www.infineon.com/dgdl/PG-LQFP-100-3%2C-4%2C-8%2C-11-Package_Overview.pdf?folderId=db3a30431a5c32f2011a90c5ac475987&fileId=db3a30431a5c32f2011a9129fcd359d1
footprint INF-PG-LQFP-100-8-6200X6200TP_N (QFP, 100-Leads, Body 14x14mm, Pitch 0.5mm, Thermal Pad 6.2x6.2mm, IPC Medium Density)
footprint INF-PG-LQFP-100-8-6200X6200TP_L (QFP, 100-Leads, Body 14x14mm, Pitch 0.5mm, Thermal Pad 6.2x6.2mm, IPC High Density)
footprint INF-PG-LQFP-100-8-6200X6200TP_M (QFP, 100-Leads, Body 14x14mm, Pitch 0.5mm, Thermal Pad 6.2x6.2mm, IPC Low Density)
part A pins: 4 P7.2 (io), 6 P7.0 (io), 7 P7.3 (io), 8 P7.1 (io), 9 P7.4 (io), 11 P6.0 (io), 12 P6.1 (io), 13 P6.2 (io), 15 P15.0 (in), 16 P15.2 (in), 17 P15.4 (in), 18 P15.5 (in), 19 P15.6 (in), 22 P5.0 (in), 23 P5.2 (in), 24 P5.3 (in), 28 P5.4 (in), 29 P5.5 (in), 30 P5.8 (in), 31 P5.9 (in), 32 P5.10 (in), 33 P5.11 (in), 34 P5.13 (in), 35 P5.15 (in), 36 P2.12 (io), 37 P2.11 (io), 39 P2.0 (io), 40 P2.1 (io), 41 P2.2 (io), 42 P4.0 (io), 43 P2.3 (io), 44 P4.1 (io), 45 P2.4 (io), 46 P2.5 (io), 47 P4.2 (io), 48 P2.6 (io), 49 P4.3 (io), 53 P0.0 (io), 54 P2.7 (io), 55 P0.1 (io), 56 P2.8 (io), 57 P2.9 (io), 58 P0.2 (io), 59 P10.0 (io), 60 P10.1 (io), 61 P0.3 (io), 62 P10.2 (io), 63 P0.4 (io), 65 P2.13 (io), 66 P2.10 (io), 67 P10.3 (io), 68 P0.5 (io), 69 P10.4 (io), 70 P10.5 (io), 71 P0.6 (io), 72 P10.6 (io), 73 P10.7 (io), 74 P0.7 (io), 78 P1.0 (io), 79 P10.8 (io), 80 P10.9 (io), 81 P1.1 (io), 82 P10.10 (io), 83 P10.11 (io), 84 P1.2 (io), 85 P10.12 (io), 86 P10.13 (io), 87 P1.3 (io), 89 P10.14 (io), 90 P1.4 (io), 91 P10.15 (io), 92 P1.5 (io), 93 P1.6 (io), 94 P1.7 (io)
part B pins: 3 ~{TESTM} (in) "Testmode Enable", 5 ~{TRST} (in) "Test-System Reset Input", 95 XTAL2 "Crystal Oscillator Amplifier Output.", 96 XTAL1, 97 ~{PORST} (in) "Power On Reset Input.", 98 ~{ESR1} (io), 99 ~{ESR0} (io)
part C pins: 1 VSS (power) "Digital Ground.", 2 VDDPB (power) "Digital Pad Supply Voltage for Domain B.", 10 VDDIM (power) "Digital Core Supply Voltage for Domain M", 14 VDDPA (power) "Digital Pad Supply Voltage for Domain A.", 20 VAREF (power) "Reference Voltage for A/D Converters ADC0/1", 21 VAGND (power) "Reference Ground for A/D Converters ADC0/1", 25 VDDPB (power) "Digital Pad Supply Voltage for Domain B.", 26 VSS (power) "Digital Ground.", 27 VDDPB (power) "Digital Pad Supply Voltage for Domain B.", 38 VDDI1 (power) "Digital Core Supply Voltage for Domain 1", 50 VDDPB (power) "Digital Pad Supply Voltage for Domain B.", 51 VSS (power) "Digital Ground.", 52 VDDPB (power) "Digital Pad Supply Voltage for Domain B.", 64 VDDI1 (power) "Digital Core Supply Voltage for Domain 1", 75 VDDPB (power) "Digital Pad Supply Voltage for Domain B.", 76 VSS (power) "Digital Ground.", 77 VDDPB (power) "Digital Pad Supply Voltage for Domain B.", 88 VDDI1 (power) "Digital Core Supply Voltage for Domain 1", 100 VDDPB (power) "Digital Pad Supply Voltage for Domain B.", 101 EP (power)

## SAF-XE164KM-72F80L AA
designator U?
80 MHz XE166 MCU with 576 KByte Program Memory, 50 KByte SRAM, 3 V, 5.5 V, -40 to 85 degC, PG-LQFP-100, Reel, Green; Manufacturer: Infineon; PartNumber: SAF-XE164KM-72F80L AA; A / D input lines (incl. FADC): 11; CAN Nodes: 0; Comment/Add. Features: Functional Packing; DatasheetVersion: Rev. 2.1; PackageVersion: Mar-13; PackageReference: PG-LQFP-100-8; PackageDescription: 100-Pin Plastic (Green) Low Profile Quad Flat Package, Body 14 x 14 mm, Pitch 0.5 mm; Supplier 1: Mouser; Supplier Part Number 1: 726-SAFXE164KM72F80L; Supplier 2: Digi-Key; Supplier Part Number 2: SAF-XE164KM-72F80L AA-ND; Mounting Technology: Surface Mount; ComponentLink1Description: Manufacturer URL; ComponentLink1URL: http://www.infineon.com/; ComponentLink2Description: Datasheet; ComponentLink2URL: http://www.infineon.com/dgdl/xe164xm_ds_v2.1_2011_07.pdf?folderId=db3a3043156fd5730115b3a665650d23&fileId=db3a304334c41e910134eb1d288804ef; ComponentLink3Description: Package Specification; ComponentLink3URL: http://www.infineon.com/dgdl/PG-LQFP-100-3%2C-4%2C-8%2C-11-Package_Overview.pdf?folderId=db3a30431a5c32f2011a90c5ac475987&fileId=db3a30431a5c32f2011a9129fcd359d1
footprint INF-PG-LQFP-100-8-6200X6200TP_N (QFP, 100-Leads, Body 14x14mm, Pitch 0.5mm, Thermal Pad 6.2x6.2mm, IPC Medium Density)
footprint INF-PG-LQFP-100-8-6200X6200TP_L (QFP, 100-Leads, Body 14x14mm, Pitch 0.5mm, Thermal Pad 6.2x6.2mm, IPC High Density)
footprint INF-PG-LQFP-100-8-6200X6200TP_M (QFP, 100-Leads, Body 14x14mm, Pitch 0.5mm, Thermal Pad 6.2x6.2mm, IPC Low Density)
part A pins: 4 P7.2 (io), 6 P7.0 (io), 7 P7.3 (io), 8 P7.1 (io), 9 P7.4 (io), 11 P6.0 (io), 12 P6.1 (io), 13 P6.2 (io), 15 P15.0 (in), 16 P15.2 (in), 17 P15.4 (in), 18 P15.5 (in), 19 P15.6 (in), 22 P5.0 (in), 23 P5.2 (in), 24 P5.3 (in), 28 P5.4 (in), 29 P5.5 (in), 30 P5.8 (in), 31 P5.9 (in), 32 P5.10 (in), 33 P5.11 (in), 34 P5.13 (in), 35 P5.15 (in), 36 P2.12 (io), 37 P2.11 (io), 39 P2.0 (io), 40 P2.1 (io), 41 P2.2 (io), 42 P4.0 (io), 43 P2.3 (io), 44 P4.1 (io), 45 P2.4 (io), 46 P2.5 (io), 47 P4.2 (io), 48 P2.6 (io), 49 P4.3 (io), 53 P0.0 (io), 54 P2.7 (io), 55 P0.1 (io), 56 P2.8 (io), 57 P2.9 (io), 58 P0.2 (io), 59 P10.0 (io), 60 P10.1 (io), 61 P0.3 (io), 62 P10.2 (io), 63 P0.4 (io), 65 P2.13 (io), 66 P2.10 (io), 67 P10.3 (io), 68 P0.5 (io), 69 P10.4 (io), 70 P10.5 (io), 71 P0.6 (io), 72 P10.6 (io), 73 P10.7 (io), 74 P0.7 (io), 78 P1.0 (io), 79 P10.8 (io), 80 P10.9 (io), 81 P1.1 (io), 82 P10.10 (io), 83 P10.11 (io), 84 P1.2 (io), 85 P10.12 (io), 86 P10.13 (io), 87 P1.3 (io), 89 P10.14 (io), 90 P1.4 (io), 91 P10.15 (io), 92 P1.5 (io), 93 P1.6 (io), 94 P1.7 (io)
part B pins: 3 ~{TESTM} (in) "Testmode Enable", 5 ~{TRST} (in) "Test-System Reset Input", 95 XTAL2 "Crystal Oscillator Amplifier Output.", 96 XTAL1, 97 ~{PORST} (in) "Power On Reset Input.", 98 ~{ESR1} (io), 99 ~{ESR0} (io)
part C pins: 1 VSS (power) "Digital Ground.", 2 VDDPB (power) "Digital Pad Supply Voltage for Domain B.", 10 VDDIM (power) "Digital Core Supply Voltage for Domain M", 14 VDDPA (power) "Digital Pad Supply Voltage for Domain A.", 20 VAREF (power) "Reference Voltage for A/D Converters ADC0/1", 21 VAGND (power) "Reference Ground for A/D Converters ADC0/1", 25 VDDPB (power) "Digital Pad Supply Voltage for Domain B.", 26 VSS (power) "Digital Ground.", 27 VDDPB (power) "Digital Pad Supply Voltage for Domain B.", 38 VDDI1 (power) "Digital Core Supply Voltage for Domain 1", 50 VDDPB (power) "Digital Pad Supply Voltage for Domain B.", 51 VSS (power) "Digital Ground.", 52 VDDPB (power) "Digital Pad Supply Voltage for Domain B.", 64 VDDI1 (power) "Digital Core Supply Voltage for Domain 1", 75 VDDPB (power) "Digital Pad Supply Voltage for Domain B.", 76 VSS (power) "Digital Ground.", 77 VDDPB (power) "Digital Pad Supply Voltage for Domain B.", 88 VDDI1 (power) "Digital Core Supply Voltage for Domain 1", 100 VDDPB (power) "Digital Pad Supply Voltage for Domain B.", 101 EP (power)

## SAF-XE164KN-16F80L AA
designator U?
80 MHz XE166 MCU with 128 KByte Program Memory, 18 KByte SRAM, 3 V, 5.5 V, -40 to 85 degC, PG-LQFP-100, Reel, Green; Manufacturer: Infineon; PartNumber: SAF-XE164KN-16F80L AA; A / D input lines (incl. FADC): 6+5; CAN Nodes: 0; Comment/Add. Features: Functional Packing; DatasheetVersion: Rev. 1.4; PackageVersion: Mar-13; PackageReference: PG-LQFP-100-8; PackageDescription: 100-Pin Plastic (Green) Low Profile Quad Flat Package, Body 14 x 14 mm, Pitch 0.5 mm; Supplier 1: Mouser; Supplier Part Number 1: 726-SAFXE164KN16F80L; Supplier 2: Digi-Key; Supplier Part Number 2: SAF-XE164KN-16F80L AA-ND; Mounting Technology: Surface Mount; ComponentLink1Description: Manufacturer URL; ComponentLink1URL: http://www.infineon.com/; ComponentLink2Description: Datasheet; ComponentLink2URL: http://www.infineon.com/dgdl/xe164xn_ds_v1.3_2011_07.pdf?folderId=db3a3043156fd5730115b3a665650d23&fileId=db3a30432313ff5e01235220469362ff; ComponentLink3Description: Package Specification; ComponentLink3URL: http://www.infineon.com/dgdl/PG-LQFP-100-3%2C-4%2C-8%2C-11-Package_Overview.pdf?folderId=db3a30431a5c32f2011a90c5ac475987&fileId=db3a30431a5c32f2011a9129fcd359d1
footprint INF-PG-LQFP-100-8-6200X6200TP_N (QFP, 100-Leads, Body 14x14mm, Pitch 0.5mm, Thermal Pad 6.2x6.2mm, IPC Medium Density)
footprint INF-PG-LQFP-100-8-6200X6200TP_L (QFP, 100-Leads, Body 14x14mm, Pitch 0.5mm, Thermal Pad 6.2x6.2mm, IPC High Density)
footprint INF-PG-LQFP-100-8-6200X6200TP_M (QFP, 100-Leads, Body 14x14mm, Pitch 0.5mm, Thermal Pad 6.2x6.2mm, IPC Low Density)
part A pins: 4 P7.2 (io), 6 P7.0 (io), 7 P7.3 (io), 8 P7.1 (io), 9 P7.4 (io), 11 P6.0 (io), 12 P6.1 (io), 13 P6.2 (io), 15 P15.0 (in), 16 P15.2 (in), 17 P15.4 (in), 18 P15.5 (in), 19 P15.6 (in), 22 P5.0 (in), 23 P5.2 (in), 24 P5.3 (in), 28 P5.4 (in), 29 P5.5 (in), 30 P5.8 (in), 31 P5.9 (in), 32 P5.10 (in), 33 P5.11 (in), 34 P5.13 (in), 35 P5.15 (in), 36 P2.12 (io), 37 P2.11 (io), 39 P2.0 (io), 40 P2.1 (io), 41 P2.2 (io), 42 P4.0 (io), 43 P2.3 (io), 44 P4.1 (io), 45 P2.4 (io), 46 P2.5 (io), 47 P4.2 (io), 48 P2.6 (io), 49 P4.3 (io), 53 P0.0 (io), 54 P2.7 (io), 55 P0.1 (io), 56 P2.8 (io), 57 P2.9 (io), 58 P0.2 (io), 59 P10.0 (io), 60 P10.1 (io), 61 P0.3 (io), 62 P10.2 (io), 63 P0.4 (io), 65 P2.13 (io), 66 P2.10 (io), 67 P10.3 (io), 68 P0.5 (io), 69 P10.4 (io), 70 P10.5 (io), 71 P0.6 (io), 72 P10.6 (io), 73 P10.7 (io), 74 P0.7 (io), 78 P1.0 (io), 79 P10.8 (io), 80 P10.9 (io), 81 P1.1 (io), 82 P10.10 (io), 83 P10.11 (io), 84 P1.2 (io), 85 P10.12 (io), 86 P10.13 (io), 87 P1.3 (io), 89 P10.14 (io), 90 P1.4 (io), 91 P10.15 (io), 92 P1.5 (io), 93 P1.6 (io), 94 P1.7 (io)
part B pins: 3 ~{TESTM} (in) "Testmode Enable", 5 ~{TRST} (in) "Test-System Reset Input", 95 XTAL2 "Crystal Oscillator Amplifier Output.", 96 XTAL1, 97 ~{PORST} (in) "Power On Reset Input.", 98 ~{ESR1} (io), 99 ~{ESR0} (io)
part C pins: 1 VSS (power) "Digital Ground.", 2 VDDPB (power) "Digital Pad Supply Voltage for Domain B.", 10 VDDIM (power) "Digital Core Supply Voltage for Domain M", 14 VDDPA (power) "Digital Pad Supply Voltage for Domain A.", 20 VAREF (power) "Reference Voltage for A/D Converters ADC0/1", 21 VAGND (power) "Reference Ground for A/D Converters ADC0/1", 25 VDDPB (power) "Digital Pad Supply Voltage for Domain B.", 26 VSS (power) "Digital Ground.", 27 VDDPB (power) "Digital Pad Supply Voltage for Domain B.", 38 VDDI1 (power) "Digital Core Supply Voltage for Domain 1", 50 VDDPB (power) "Digital Pad Supply Voltage for Domain B.", 51 VSS (power) "Digital Ground.", 52 VDDPB (power) "Digital Pad Supply Voltage for Domain B.", 64 VDDI1 (power) "Digital Core Supply Voltage for Domain 1", 75 VDDPB (power) "Digital Pad Supply Voltage for Domain B.", 76 VSS (power) "Digital Ground.", 77 VDDPB (power) "Digital Pad Supply Voltage for Domain B.", 88 VDDI1 (power) "Digital Core Supply Voltage for Domain 1", 100 VDDPB (power) "Digital Pad Supply Voltage for Domain B.", 101 EP (power)